# Altium schematic symbol library MCP2561 CAN Transceiver.SchLib: 1 symbol
Pins are listed as number, name and electrical type; pins without a type are passive.

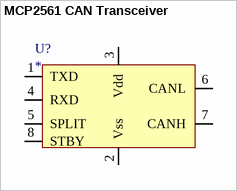
[diagram p0: symbol MCP2561 CAN Transceiver]

## MCP2561 CAN Transceiver
designator U?
pins: 1 TXD, 2 Vss, 3 Vdd, 4 RXD, 5 SPLIT, 6 CANL, 7 CANH, 8 STBY
1 alternate drawing of the same symbol